# EAGLE library part RESISTOR_ARRAY (library passive)
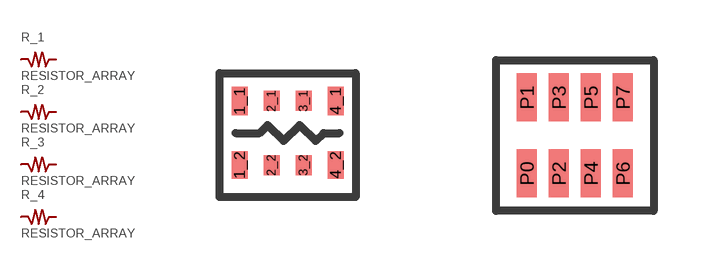
[diagram p0: symbol with the pads of ARRAY_3216(1608X4); footprints ARRAY_3216(1608X4), ARRAY_RELAY_3216(1608X4)]

Designator prefix R; gates _1=RESISTOR _2=RESISTOR _3=RESISTOR _4=RESISTOR

## RESISTOR_ARRAY  [ARRAY_3216(1608X4)]
1_1  _1:P$1  pas
1_2  _1:P$2  pas
2_1  _2:P$1  pas
2_2  _2:P$2  pas
3_1  _3:P$1  pas
3_2  _3:P$2  pas
4_1  _4:P$1  pas
4_2  _4:P$2  pas

## RESISTOR_ARRAY1608ARRAY_4  [ARRAY_RELAY_3216(1608X4)]
P0  _1:P$1  pas
P1  _1:P$2  pas
P2  _2:P$1  pas
P3  _2:P$2  pas
P4  _3:P$1  pas
P5  _3:P$2  pas
P6  _4:P$1  pas
P7  _4:P$2  pas

## Footprint ARRAY_3216(1608X4) (pad centres in mm)
smd 0.4 x 0.7: 1_1 -1.6,1.6; 1_2 -1.6,0; 4_1 0.8,1.6; 4_2 0.8,0
smd 0.4 x 0.5: 2_1 -0.8,1.6; 2_2 -0.8,0; 3_1 0,1.6; 3_2 0,0

## Footprint ARRAY_RELAY_3216(1608X4) (pad centres in mm)
smd 0.5 x 1.2: P0 0,-1.9; P1 0,0; P2 0.8,-1.9; P3 0.8,0; P4 1.6,-1.9; P5 1.6,0; P6 2.4,-1.9; P7 2.4,0